# EAGLE library part SWITCH-DPDT (library angrypig7-Switches)
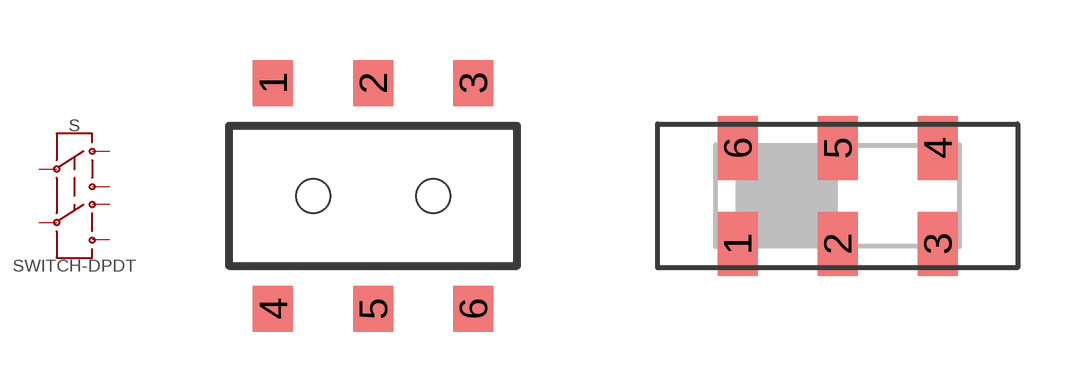
[diagram p0: symbol with the pads of SWITCH_DPDT_SMD_AYZ0202; footprints SWITCH_DPDT_SMD_AYZ0202, SWITCH_DPDT_SMD_JS202011JCQN]

Designator prefix S

## SWITCH-DPDT-SMD-AYZ0202  [SWITCH_DPDT_SMD_AYZ0202]
1  1
2  2
3  3
4  4
5  5
6  6

## SWITCH-DPDT-SMD-JS202011JCQN (PROD_ID: SWCH-14133)  [SWITCH_DPDT_SMD_JS202011JCQN]
1  1
2  2
3  3
4  6
5  5
6  4

## SWITCH-DPDT-PTH-9.1X3.5MM  [SWITCH_DPDT_9.1X3.5MM]
Pads as for SWITCH_DPDT_SMD_AYZ0202

## Footprint SWITCH_DPDT_SMD_AYZ0202 (pad centres in mm)
ITT Industries AYZ0202 DPDT Switch - SMD Double-pole, double-throw switches. Datasheet <https://www.sparkfun.com/datasheets/Components/SW_slide_ayz.pdf>
smd 1 x 1.15: 1 -2.5,2.825; 2 0,2.825; 3 2.5,2.825; 4 -2.5,-2.825; 5 0,-2.825; 6 2.5,-2.825
hole 0.85 at 1.5,0
hole 0.85 at -1.5,0

## Footprint SWITCH_DPDT_SMD_JS202011JCQN (pad centres in mm)
smd 1 x 1.6: 1 -2.5,-1.2; 2 0,-1.2; 3 2.5,-1.2; 4 2.5,1.2; 5 0,1.2; 6 -2.5,1.2

## Footprint SWITCH_DPDT_9.1X3.5MM (pad centres in mm)
Korean Hroparts Elec K3-2235D-F1
drill 0.9: 1 -2.5,1.7; 2 0,1.7; 3 2.5,1.7; 4 -2.5,-1.7; 5 0,-1.7; 6 2.5,-1.7